# EAGLE library part USB-1X-4S (library !con-usb)
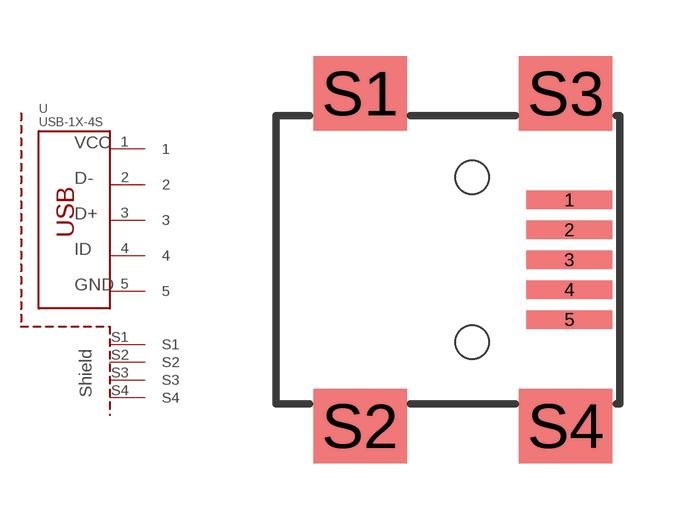
[diagram p1: symbol with the pads of USB-JACK-MINI-SMD-4S; footprint USB-JACK-MINI-SMD-4S]

Designator prefix -

## USB-1X-4S-JACK-MINI-4S  [USB-JACK-MINI-SMD-4S]
1  1  pas
2  2  pas
3  3  pas
4  4  pas
5  5  pas
S1  S1  pas
S2  S2  pas
S3  S3  pas
S4  S4  pas

## Footprint USB-JACK-MINI-SMD-4S (pad centres in mm)
smd 2.3 x 0.5: 1 7.85,5.45; 2 7.85,4.65; 3 7.85,3.85; 4 7.85,3.05; 5 7.85,2.25
smd 2.5 x 2: S1 2.25,8.3; S2 2.25,-0.6; S3 7.75,8.3; S4 7.75,-0.6
hole 0.9 at 5.25,6.05
hole 0.9 at 5.25,1.65